# Altium footprint library LP_ECG-X01.PcbLib: 44 footprints (part 2 of 3)
Each footprint in its own frame and in the unit in brackets; x right, y up, seen from the top. Pads: shape width x height; smd on the part's side, far side on the other; paste and mask are expansions set on the pad; w line width, h text height; cw(c..) or ccw(c..) is an arc to the next point about the centre after c.
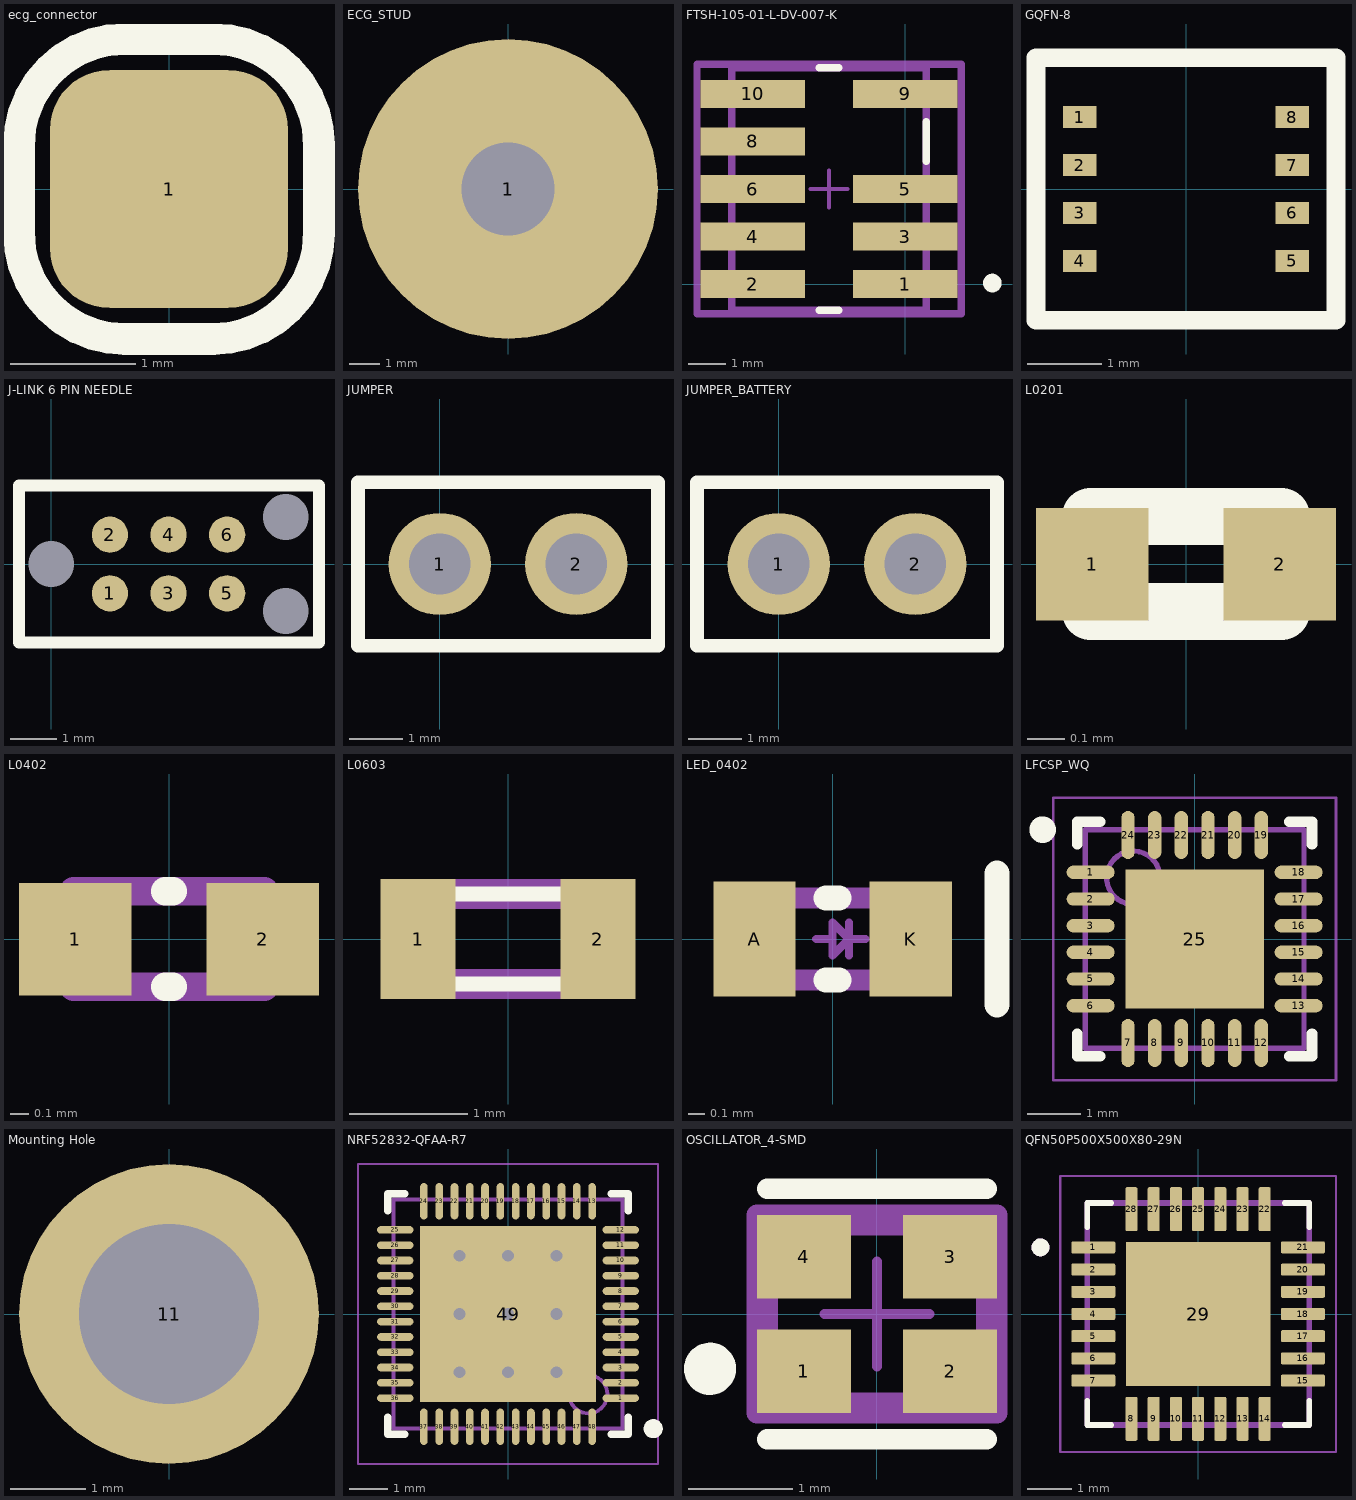
[diagram p1: the footprints below, top view; thin cyan lines are the x and y axes]

## ecg_connector [mm] "Surface Mount ECG Connector"
pads (1):
  rrect50% 1.905x1.905 smd: 1(0,0)
Top Overlay:
  lines w0.254: -1.2,-0.354 ccw(c-0.354,-0.354) -0.354,-1.2 0.354,-1.2 ccw(c0.354,-0.354) 1.2,-0.354 1.2,0.354 ccw(c0.354,0.354) 0.354,1.2 -0.354,1.2 ccw(c-0.354,0.354) -1.2,0.354 -1.2,-0.354

## ECG_STUD [mm] "996 STUD/EYELET COMBO"
pads (1):
  round 10 hole 3.1: 1(0,0)
3D body "996_Stud_Eyelet.STEP": height 2.86, standoff -6.31, extent -5.156,-5.156 5.156,5.156

## FTSH-105-01-L-DV-007-K [mm]
pads (9):
  rect 2.79x0.74 smd paste+0 mask+0: 1(0,0) 2(-4.07,0) 3(0,1.27) 4(-4.07,1.27) 5(0,2.54) 6(-4.07,2.54) 8(-4.07,3.81) 9(0,5.08) 10(-4.07,5.08)
Top Overlay:
  circle w0.25: c2.33,0.025 r0.125
  lines w0.2: -2.3,-0.7 -1.77,-0.7 ; -2.3,5.78 -1.77,5.78 ; 0.57,3.285 0.57,4.335
Top 3D Body:
  lines w0.2: -4.64,-0.7 0.57,-0.7 0.57,5.78 -4.64,5.78 -4.64,-0.7
Top Courtyard:
  lines w0.2: -5.565,-0.8 1.495,-0.8 1.495,5.88 -5.565,5.88 -5.565,-0.8
Top Assembly:
  lines w0.2: -5.565,-0.8 1.495,-0.8 1.495,5.88 -5.565,5.88 -5.565,-0.8
  text ".Designator" at -1.942,2.54 h0.51
Top Component Center:
  lines w0.1: -2.535,2.54 -1.535,2.54 ; -2.035,2.04 -2.035,3.04
3D body "Conn_Samtec_FTSH-105-01-L-DV-007-K_eec.STEP": height 0.25, standoff 0, extent -5.565,-0.8 1.495,5.88

## GQFN-8 [mm] "3.23MM X 3.28MM X 0.5MM"
height 0.5
pads (8):
  rect 0.45x0.3 smd: 1(-1.44,0.975) 2(-1.44,0.325) 3(-1.44,-0.325) 4(-1.44,-0.975) 5(1.44,-0.975) 6(1.44,-0.325) 7(1.44,0.325) 8(1.44,0.975)
Top Overlay:
  lines w0.254: -2.032,-1.778 2.032,-1.778 2.032,1.778 -2.032,1.778 -2.032,-1.778
3D body "GQFN-8.STEP": height 0.5, standoff 0, extent -1.615,-1.64 1.615,1.64

## J-LINK 6 PIN NEEDLE [mil] "J-LINK 6 PIN NEEDLE ADAPTER"
pads (9):
  round 30.98 smd mask+0: 1(50,-25) 2(50,25) 3(100,-25) 4(100,25) 5(150,-25) 6(150,25)
  round 0 hole 39.02 unplated mask+0: 7(0,0) 7(200,-40) 7(200,40)
Top Overlay:
  lines w10: -27.56,-66.93 228.35,-66.93 228.35,66.93 -27.56,66.93 -27.56,-66.93

## JUMPER [mil]
pads (2):
  round 75 hole 45: 1(0,0) 2(100,0)
Top Overlay:
  lines w10: -60,-60 160,-60 160,60 -60,60 -60,-60
3D body "Jumper Closed.stp": height 343.31, standoff -120.08, extent -49.99,-50.09 150.01,49.91

## JUMPER_BATTERY [mil]
pads (2):
  round 75 hole 45: 1(0,0) 2(100,0)
Top Overlay:
  lines w10: -60,-60 -60,60 160,60 160,-60 -60,-60
3D body "Jumper Closed.stp": height 343.31, standoff -120.08, extent -49.99,-50.09 150.01,49.91

## L0201 [mm] "Experimental"
pads (2):
  rect 0.3x0.3 smd mask+0.036: 1(-0.25,0) 2(0.25,0)
Top Overlay:
  lines w0.152: -0.254,-0.127 -0.254,0.127 0.254,0.127 0.254,-0.127 -0.254,-0.127

## L0402 [mm]
pads (2):
  rect 0.6x0.6 smd: 1(-0.5,0) 2(0.5,0)
Top Overlay:
  lines w0.152: -0.02,-0.254 0.02,-0.254 ; -0.02,0.254 0.02,0.254
Mechanical 3:
  lines w0.152: -0.508,-0.254 -0.508,0.254 0.508,0.254 0.508,-0.254 -0.508,-0.254
3D body "C0402.stp": height 0.55, standoff 0, extent -0.5,-0.25 0.5,0.25

## L0603 [mil] "surface mount inductor 0603"
pads (2):
  rect 25x40 smd: 1(-30,0) 2(30,0)
Top Overlay:
  lines w5: -30,-15 30,-15 30,15 -30,15 -30,-15
Mechanical 3:
  lines w10: -30,-15 30,-15 30,15 -30,15 -30,-15
3D body "L0603.step": height 39.37, standoff 0, extent -31.49,-15.74 31.5,15.75

## LED_0402 [mm] "0402 w/ LED mark"
pads (2):
  rect 0.5x0.7 smd: A(-0.475,0) K(0.475,0)
Top Overlay:
  lines w0.152: -0.04,-0.25 0.04,-0.25 ; -0.04,0.25 0.04,0.25 ; 1,-0.4 1,0.4
Mechanical 3:
  lines w0.05: -0.1,0 0,0 ; 0.1,-0.1 0.1,0.1 ; 0.2,0 0.1,0 ; 0.1,0 0,0.1 0,-0.1 0.1,0
  lines w0.127: -0.5,-0.25 0.5,-0.25 0.5,0.25 -0.5,0.25 -0.5,-0.25
3D body "LED0402.stp": height 0.35, standoff 0, extent -0.5,-0.25 0.5,0.25

## LFCSP_WQ [mm] "QFN, 24-Leads, Body 4x4mm, Pitch 0.5mm, Thermal Pad 2.5x2.5mm, IPC Medium Density"
height 1
pads (25):
  oval 0.9x0.25 smd: 1(-1.95,1.25) 2(-1.95,0.75) 3(-1.95,0.25) 4(-1.95,-0.25) 5(-1.95,-0.75) 6(-1.95,-1.25) 13(1.95,-1.25) 14(1.95,-0.75) 15(1.95,-0.25) 16(1.95,0.25) 17(1.95,0.75) 18(1.95,1.25)
  oval 0.25x0.9 smd: 7(-1.25,-1.95) 8(-0.75,-1.95) 9(-0.25,-1.95) 10(0.25,-1.95) 11(0.75,-1.95) 12(1.25,-1.95) 19(1.25,1.95) 20(0.75,1.95) 21(0.25,1.95) 22(-0.25,1.95) 23(-0.75,1.95) 24(-1.25,1.95)
  rect 2.6x2.6 smd: 25(0,0)
Top Overlay:
  circle w0.25: c-2.85,2.05 r0.125
  lines w0.2: -2.2,-1.775 -2.2,-2.2 -1.775,-2.2 ; -2.2,1.775 -2.2,2.2 -1.775,2.2 ; 1.775,-2.2 2.2,-2.2 2.2,-1.775 ; 1.775,2.2 2.2,2.2 2.2,1.775
Mechanical 13:
  circle w0.1: c-1.15,1.15 r0.5
  lines w0.1: -2.05,-2.05 2.05,-2.05 2.05,2.05 -2.05,2.05 -2.05,-2.05
Mechanical 15:
  lines w0.05: -2.65,-2.65 2.65,-2.65 2.65,2.65 -2.65,2.65 -2.65,-2.65
  lines w0.1: -0.5,0 0.5,0 ; 0,-0.5 0,0.5
3D body: height 1, standoff 0, extent -2.05,-2.05 2.05,2.05

## Mounting Hole [mm] "M2 or 2-56 Mounting Hole"
pads (1):
  round 4 hole 2.4: 11(0,0)
3D body "92185A077.STEP": height 2.28, standoff -6.25, extent -1.778,-1.778 1.778,1.778
3D body "91115A956.STEP": height -0.77, standoff -18.23, extent -1.587,-1.833 1.588,1.833

## NRF52832-QFAA-R7 [mm]
pads (49):
  oval 0.95x0.2 smd: 1(2.95,-2.2) 2(2.95,-1.8) 3(2.95,-1.4) 4(2.95,-1) 5(2.95,-0.6) 6(2.95,-0.2) 7(2.95,0.2) 8(2.95,0.6) 9(2.95,1) 10(2.95,1.4) 11(2.95,1.8) 12(2.95,2.2) 25(-2.95,2.2) 26(-2.95,1.8) 27(-2.95,1.4) 28(-2.95,1) 29(-2.95,0.6) 30(-2.95,0.2) 31(-2.95,-0.2) 32(-2.95,-0.6) 33(-2.95,-1) 34(-2.95,-1.4) 35(-2.95,-1.8) 36(-2.95,-2.2)
  oval 0.2x0.95 smd: 13(2.2,2.95) 14(1.8,2.95) 15(1.4,2.95) 16(1,2.95) 17(0.6,2.95) 18(0.2,2.95) 19(-0.2,2.95) 20(-0.6,2.95) 21(-1,2.95) 22(-1.4,2.95) 23(-1.8,2.95) 24(-2.2,2.95) 37(-2.2,-2.95) 38(-1.8,-2.95) 39(-1.4,-2.95) 40(-1,-2.95) 41(-0.6,-2.95) 42(-0.2,-2.95) 43(0.2,-2.95) 44(0.6,-2.95) 45(1,-2.95) 46(1.4,-2.95) 47(1.8,-2.95) 48(2.2,-2.95)
  rect 4.6x4.6 smd: 49(0,0)
via -1.27,1.524 diameter 0.635 hole 0.305
via 1.27,1.524 diameter 0.635 hole 0.305
via 0,1.524 diameter 0.635 hole 0.305
via -1.27,0 diameter 0.635 hole 0.305
via -1.27,-1.524 diameter 0.635 hole 0.305
via 0,-1.524 diameter 0.635 hole 0.305
via 1.27,-1.524 diameter 0.635 hole 0.305
via 1.27,0 diameter 0.635 hole 0.305
via 0,0 diameter 0.635 hole 0.305
Top Overlay:
  circle w0.25: c3.8,-3 r0.125
  lines w0.2: -3.15,-2.7 -3.15,-3.15 -2.7,-3.15 ; -3.15,2.7 -3.15,3.15 -2.7,3.15 ; 2.7,-3.15 3.15,-3.15 3.15,-2.7 ; 2.7,3.15 3.15,3.15 3.15,2.7
Mechanical 13:
  circle w0.1: c2.1,-2.1 r0.5
  lines w0.1: -3,-3 3,-3 3,3 -3,3 -3,-3
Mechanical 15:
  lines w0.05: -3.925,-3.925 3.925,-3.925 3.925,3.925 -3.925,3.925 -3.925,-3.925
  lines w0.1: -0.5,0 0.5,0 ; 0,-0.5 0,0.5
3D body: height 0.9, standoff 0, extent -3,-3 3,3

## OSCILLATOR_4-SMD [mm] "2.0 MM X 1.6 MM X 0.75 MM, 4-SMD"
height 0.75
pads (4):
  rect 0.9x0.8 smd paste+0 mask+0: 1(-0.7,-0.55) 2(0.7,-0.55) 3(0.7,0.55) 4(-0.7,0.55)
Top Overlay:
  circle w0.25: c-1.6,-0.525 r0.125
  lines w0.2: -1.05,-1.2 1.05,-1.2 ; -1.05,1.2 1.05,1.2
Mechanical 5:
  lines w0.2: -1.15,-0.95 1.15,-0.95 1.15,0.95 -1.15,0.95 -1.15,-0.95
  text ".Designator" at 0,0.188 h1
Mechanical 13:
  lines w0.2: -1.05,-0.85 1.05,-0.85 1.05,0.85 -1.05,0.85 -1.05,-0.85
Mechanical 15:
  lines w0.2: -1.15,-0.95 1.15,-0.95 1.15,0.95 -1.15,0.95 -1.15,-0.95
Mechanical 16:
  lines w0.1: -0.5,0 0.5,0 ; 0,-0.5 0,0.5
3D body "Crys_Abracon_ASA-16_000MHZ-L-T_eec.STEP": height 0.25, standoff 0, extent -1.15,-0.95 1.15,0.95

## QFN50P500X500X80-29N [mm]
pads (29):
  rrect25% 0.99x0.27 smd: 1(-2.36,1.5) 2(-2.36,1) 3(-2.36,0.5) 4(-2.36,0) 5(-2.36,-0.5) 6(-2.36,-1) 7(-2.36,-1.5) 15(2.36,-1.5) 16(2.36,-1) 17(2.36,-0.5) 18(2.36,0) 19(2.36,0.5) 20(2.36,1) 21(2.36,1.5)
  rrect25% 0.27x0.99 smd: 8(-1.5,-2.36) 9(-1,-2.36) 10(-0.5,-2.36) 11(0,-2.36) 12(0.5,-2.36) 13(1,-2.36) 14(1.5,-2.36) 22(1.5,2.36) 23(1,2.36) 24(0.5,2.36) 25(0,2.36) 26(-0.5,2.36) 27(-1,2.36) 28(-1.5,2.36)
  rect 3.25x3.25 smd paste-3: 29(0,0)
Top Overlay:
  circle w0.2: c-3.55,1.5 r0.1
  lines w0.127: -2.5,-1.955 -2.5,-2.5 -1.955,-2.5 ; -2.5,1.955 -2.5,2.5 -1.955,2.5 ; 1.955,-2.5 2.5,-2.5 2.5,-1.955 ; 1.955,2.5 2.5,2.5 2.5,1.955
Top Paste:
  region: 1.03,-1.03 -1.03,-1.03 -1.03,1.03 1.03,1.03
Mechanical 13:
  circle w0.2: c-3.55,1.5 r0.1
  lines w0.127: -2.5,-2.5 2.5,-2.5 2.5,2.5 -2.5,2.5 -2.5,-2.5
Mechanical 15:
  lines w0.05: -3.105,-3.105 3.105,-3.105 3.105,3.105 -3.105,3.105 -3.105,-3.105
3D body "21-0140L_T2855-8.step": height 0.81, standoff 0, extent -2.553,-2.553 2.553,2.553